# Altium schematic symbol library Shelestov_Misc.SchLib: 113 symbols (part 2 of 2)
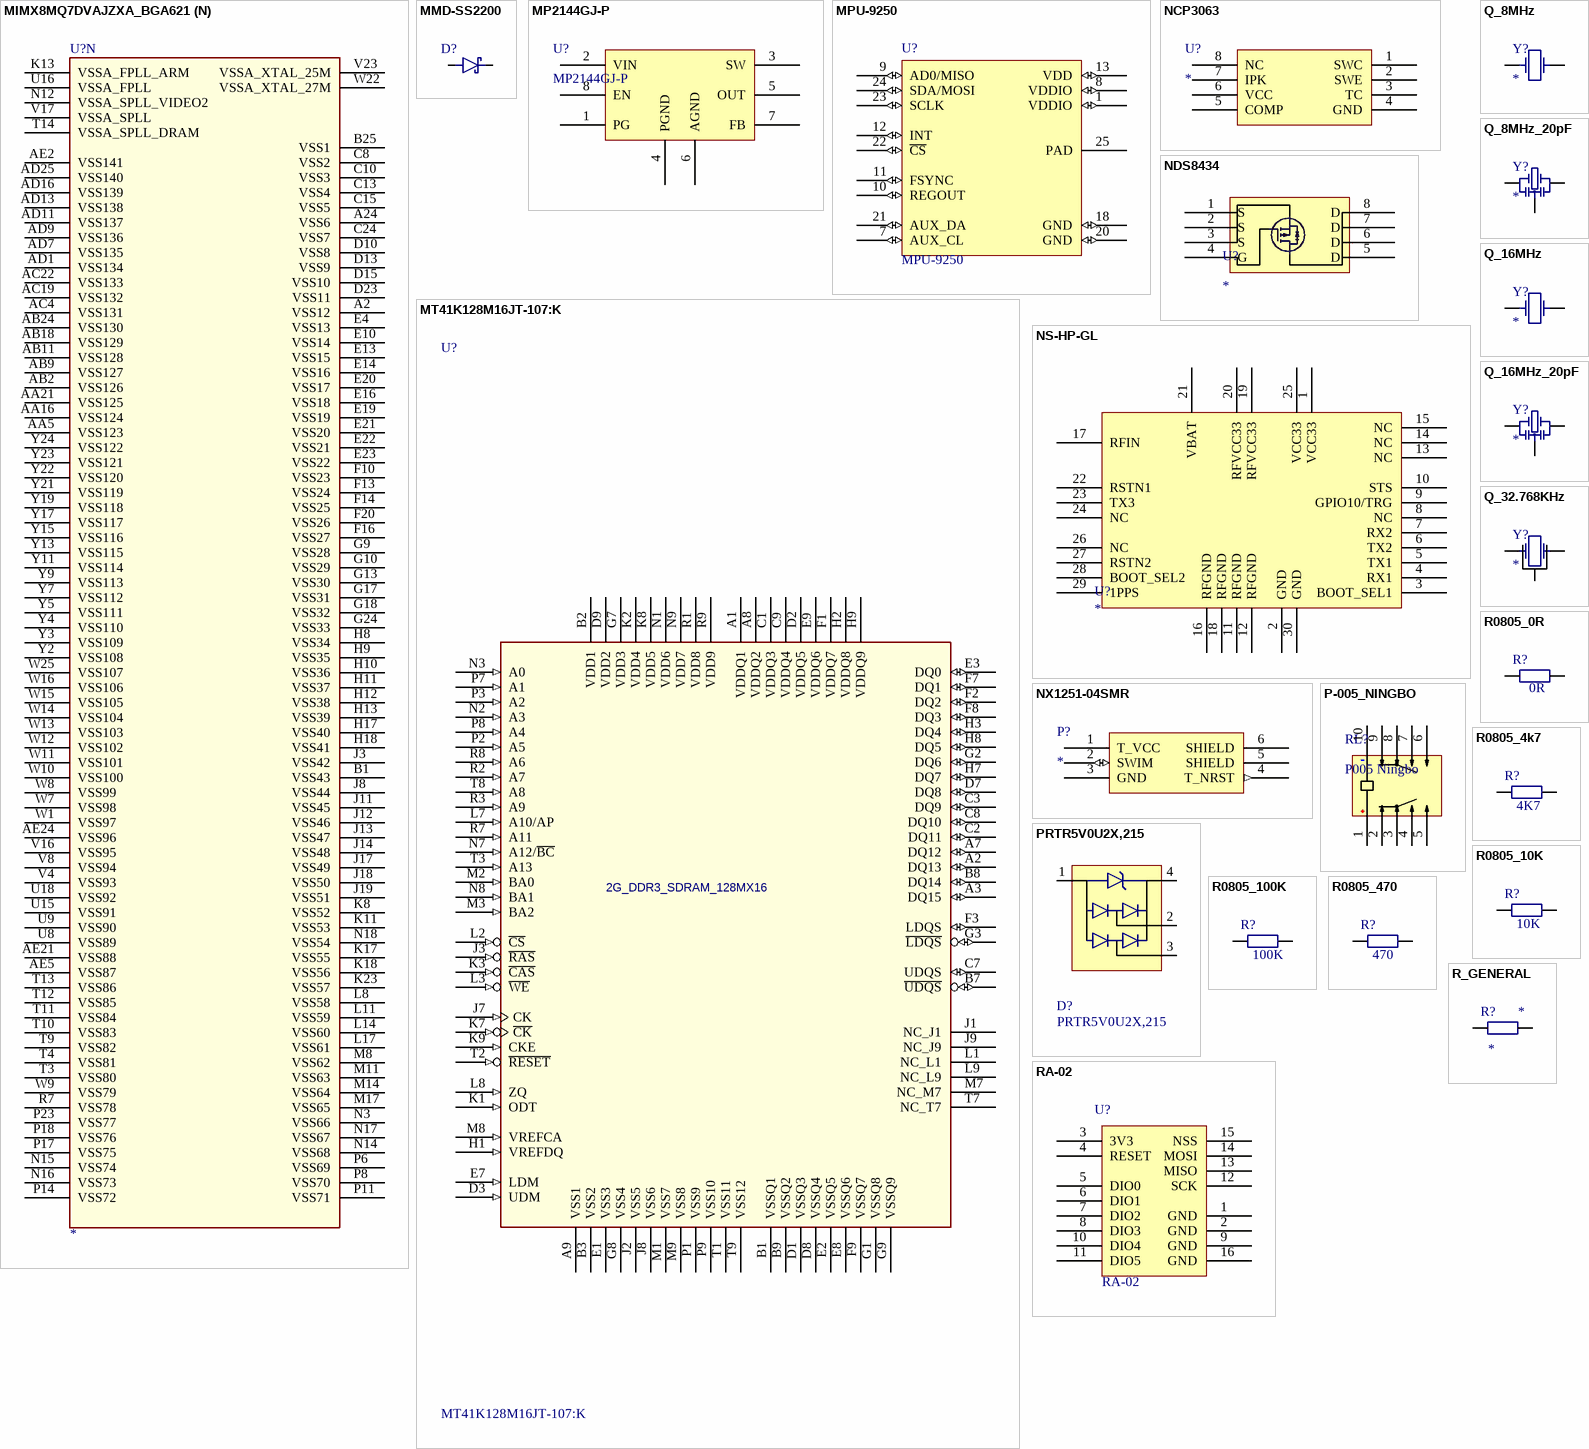
[diagram p12: symbols MIMX8MQ7DVAJZXA_BGA621 to RA-02]

## MIMX8MQ7DVAJZXA_BGA621
designator U?
CLASS: IC; SPLIT_INST: TRUE; SWAP_INFO: (S1+S2+S3+S4+S5+S6+S7+S8+S9+S10+S11+S12+S13)
footprint bga621_heatsink
part A pins: AA1 DRAM_DQ22, AA2 DRAM_DQ20, AA3 DRAM_DQ26, AA4 DRAM_DQ25, AA6 DRAM_DQ27, AA7 DRAM_DQ30, AA8 DRAM_DQ28, AA9 DRAM_DQ31, AA12 -- / PARITY / --, AA13 ZQ / ZQ / ZQ, AA14 VREF / VREF / VREF, AA17 DRAM_DQ15, AA18 DRAM_DQ12, AA19 DRAM_DQ14, AA20 DRAM_DQ11, AA22 DRAM_DQ09, AA23 DRAM_DQ10, AA24 DRAM_DQ04, AA25 DRAM_DQ06, AB1 DRAM_DQ23, AB4 DRAM_DQ24, AB5 DRAM_DQS3_P, AB6 DRAM_DM3, AB7 DRAM_DQ29, AB10 -- / RAS_n(A16) / RAS#, AB12 -- / BA1 / BA1, AB13 RESET_n / RESET_n / RESET#, AB14 MTEST / MTEST / MTEST, AB15 -- / A9 / A9, AB16 -- / A4 / A4, AB19 DRAM_DQ13, AB20 DRAM_DM1, AB21 DRAM_DQS1_P, AB22 DRAM_DQ08, AB25 DRAM_DQ07, AC1 DRAM_DQS2_N, AC2 DRAM_DQS2_P, AC5 DRAM_DQS3_N, AC7 CA2_B / A13 / A13, AC9 CS0_B / -- / --, AC10 -- / WE_n(A14) / WE#, AC11 -- / CS1_n / CS1#, AC12 -- / ODT0 / ODT0, AC13 MTEST1 / MTEST1(ALERT_n) / MTEST1, AC15 -- / A3 / A3, AC16 CKE0_A / CKE0 / CKE0, AC18 CS1_A / C0 / --, AC21 DRAM_DQS1_N, AC24 DRAM_DQS0_P, AC25 DRAM_DQS0_N, AD2 DRAM_DQ17, AD3 DRAM_DM2, AD4 DRAM_DQ19, AD6 CA5_B / A0 / A0, AD8 CS1_B / -- / --, AD10 CKE0_B / CK_t_B / CK_B, AD12 CK_t_B / A2 / A2, AD14 CK_t_A / BG0 / BA2, AD15 -- / CK_c_A / CK#_A, AD17 CA0_A / A12 / A12(BC#), AD19 CA4_A / A6 / A6, AD20 CA2_A / A7 / A7, AD22 DRAM_DQ03, AD23 DRAM_DM0, AD24 DRAM_DQ01, AE3 DRAM_DQ16, AE4 DRAM_DQ18, AE6 CA4_B / A10(AP) / A10(AP), AE7 CA3_B / BA0 / BA0, AE8 CA0_B / C2 / --, AE9 CA1_B / CAS_n(A15) / CAS#, AE10 CKE1_B / CK_c_B / CK#_B, AE11 -- / ODT1 / ODT1, AE12 CK_c_B / A1 / A1, AE13 -- / ACT_n / A15, AE14 CK_c_A / BG1 / A14, AE15 -- / CK_t_A / CK_A, AE16 CA1_A / A11 / A11, AE17 CKE1_A / CKE1 / CKE1, AE18 CS0_A / CS0_n / CS0#, AE19 CA5_A / A5 / A5, AE20 CA3_A / A8 / A8, AE22 DRAM_DQ02, AE23 DRAM_DQ00, Y1 DRAM_DQ21, Y25 DRAM_DQ05
part B pins: A8 USB2_RX_P, A9 USB2_TX_P, A10 USB2_DP, A11 USB1_RESREF, A12 USB1_RX_P, A13 USB1_TX_P, A14 USB1_DP, B8 USB2_RX_N, B9 USB2_TX_N, B10 USB2_DN, B11 USB2_RESREF, B12 USB1_RX_N, B13 USB1_TX_N, B14 USB1_DN, C9 USB2_ID, C14 USB1_ID, D9 USB2_VBUS, D14 USB1_VBUS
part C pins: C25 PCIE2_RESREF, D24 PCIE2_RXN_N, D25 PCIE2_RXN_P, E24 PCIE2_TXN_N, E25 PCIE2_TXN_P, F24 PCIE2_REF_PAD_CLK_N, F25 PCIE2_REF_PAD_CLK_P, G25 PCIE1_RESREF, H24 PCIE1_RXN_N, H25 PCIE1_RXN_P, J24 PCIE1_TXN_N, J25 PCIE1_TXN_P, K24 PCIE1_REF_PAD_CLK_N, K25 PCIE1_REF_PAD_CLK_P
part D pins: A15 MIPI_DSI_D3_N, A16 MIPI_DSI_D1_N, A17 MIPI_DSI_D0_N, A18 MIPI_DSI_D2_N, B15 MIPI_DSI_D3_P, B16 MIPI_DSI_D1_P, B17 MIPI_DSI_D0_P, B18 MIPI_DSI_D2_P, C16 MIPI_DSI_CLK_N, C17 MIPI_DSI_REXT, D16 MIPI_DSI_CLK_P
part E pins: A19 MIPI_CSI2_CLK_N, A20 MIPI_CSI2_D1_N, A21 MIPI_CSI2_D2_N, A22 MIPI_CSI1_CLK_N, A23 MIPI_CSI1_D0_N, B19 MIPI_CSI2_CLK_P, B20 MIPI_CSI2_D1_P, B21 MIPI_CSI2_D2_P, B22 MIPI_CSI1_CLK_P, B23 MIPI_CSI1_D0_P, B24 MIPI_CSI1_D2_N, C19 MIPI_CSI2_D3_N, C20 MIPI_CSI2_D0_N, C21 MIPI_CSI1_D3_N, C22 MIPI_CSI1_D1_N, C23 MIPI_CSI1_D2_P, D19 MIPI_CSI2_D3_P, D20 MIPI_CSI2_D0_P, D21 MIPI_CSI1_D3_P, D22 MIPI_CSI1_D1_P
part F pins: M1 HDMI_TX_P_LN_3, M2 HDMI_TX_M_LN_3, N1 HDMI_TX_M_LN_2, N2 HDMI_TX_P_LN_2, P1 HDMI_REXT, P3 HDMI_DDC_SDA, R1 HDMI_REFCLK_N, R2 HDMI_REFCLK_P, R3 HDMI_DDC_SCL, T1 HDMI_TX_P_LN_0, T2 HDMI_TX_M_LN_0, U1 HDMI_TX_M_LN_1, U2 HDMI_TX_P_LN_1, V1 HDMI_AUX_P, V2 HDMI_AUX_N, W2 HDMI_HPD, W3 HDMI_CEC
part G pins: A3 SAI1_MCLK, B2 SAI1_TXD2, B3 SAI1_TXD6, C1 SAI1_TXD7, C2 SAI1_TXD5, C3 SAI3_TXD, C4 SAI3_TXC, D1 SAI1_TXD3, D2 SAI1_TXD4, D3 SAI3_MCLK, E1 SAI1_TXC, E2 SAI1_TXD1, E6 SPDIF_EXT_CLK, F1 SAI1_RXD5, F2 SAI1_TXD0, F3 SAI3_RXD, F4 SAI3_RXC, F6 SPDIF_TX, G1 SAI1_RXD7, G2 SAI1_RXD6, G3 SAI3_TXFS, G4 SAI3_RXFS, G5 SAI2_TXD0, G6 SPDIF_RX, H1 SAI1_TXFS, H2 SAI1_RXD2, H3 SAI2_RXC, H4 SAI2_TXFS, H5 SAI2_MCLK, H6 SAI2_RXD0, J1 SAI1_RXD4, J2 SAI1_RXD3, J4 SAI2_RXFS, J5 SAI2_TXC, K1 SAI1_RXC, K2 SAI1_RXD0, K4 SAI5_MCLK, K5 SAI5_RXD3, L1 SAI1_RXFS, L2 SAI1_RXD1, L4 SAI5_RXD1, L5 SAI5_RXC, M4 SAI5_RXD2, M5 SAI5_RXD0, N4 SAI5_RXFS
part H pins: F21 NAND_CE2_B, G19 NAND_ALE, G20 NAND_DATA00, G21 NAND_CE1_B, H19 NAND_CE0_B, H20 NAND_CE3_B, H21 NAND_CLE, H22 NAND_DATA02, J20 NAND_DATA01, J21 NAND_DATA03, J22 NAND_DATA05, K19 NAND_RE_B, K20 NAND_READY_B, K21 NAND_WP_B, K22 NAND_WE_B, L19 NAND_DATA06, L20 NAND_DATA04, M19 NAND_DATA07, M20 NAND_DQS
part I pins: L21 SD2_CD_B, L22 SD2_CLK, L24 SD1_CMD, L25 SD1_CLK, M21 SD2_WP, M22 SD2_CMD, M24 SD1_DATA1, M25 SD1_DATA0, N21 SD2_DATA1, N22 SD2_DATA0, N24 SD1_DATA4, N25 SD1_DATA2, P21 SD2_DATA3, P22 SD2_DATA2, P24 SD1_DATA5, P25 SD1_DATA3, R22 SD2_RESET_B, R24 SD1_RESET_B, R25 SD1_DATA6, T24 SD1_STROBE, T25 SD1_DATA7
part J pins: N19 ENET_MDIO, N20 ENET_MDC, P19 ENET_TX_CTL, P20 ENET_TD3, R19 ENET_TD2, R20 ENET_TD0, R21 ENET_TD1, T19 ENET_TXC, T20 ENET_RXC, T21 ENET_RX_CTL, U19 ENET_RD0, U20 ENET_RD2, U21 ENET_RD1, V19 ENET_RD3
part K pins: A4 ECSPI1_MOSI, A5 ECSPI2_SS0, A6 UART3_RXD, A7 UART1_TXD, B4 ECSPI1_MISO, B5 ECSPI2_MISO, B6 UART2_RXD, B7 UART3_TXD, C5 ECSPI2_SCLK, C6 UART4_RXD, C7 UART1_RXD, D4 ECSPI1_SS0, D5 ECSPI1_SCLK, D6 UART2_TXD, D7 UART4_TXD, E5 ECSPI2_MOSI, E7 I2C1_SCL, E8 I2C1_SDA, E9 I2C3_SDA, F7 I2C2_SDA, F8 I2C4_SCL, F9 I2C4_SDA, G7 I2C2_SCL, G8 I2C3_SCL, J6 GPIO1_IO15, K6 GPIO1_IO13, K7 GPIO1_IO14, L6 GPIO1_IO11, L7 GPIO1_IO12, M6 GPIO1_IO09, M7 GPIO1_IO10, N5 GPIO1_IO06, N6 GPIO1_IO07, N7 GPIO1_IO08, P4 GPIO1_IO03, P5 GPIO1_IO04, P7 GPIO1_IO05, R4 GPIO1_IO02, T6 GPIO1_IO00, T7 GPIO1_IO01
part L pins: R23 CLK1_P, T5 JTAG_TCK, T22 CLK2_P, T23 CLK1_N, U5 JTAG_TDO, U6 JTAG_TRST_B, U7 JTAG_MOD, U22 CLK2_N, U24 XTALO_25M, U25 XTALI_25M, V5 JTAG_TMS, V6 BOOT_MODE1, V7 TEST_MODE, V20 PMIC_ON_REQ, V21 PMIC_STBY_REQ, V22 RTC, V24 XTALO_27M, V25 XTALI_27M, W5 JTAG_TDI, W6 BOOT_MODE0, W19 RTC_RESET_B, W20 POR_B, W21 ONOFF
part M pins: AA10 NVCC_DRAM2, AA11 VDDA_DRAM, AA15 NVCC_DRAM4, AB3 NVCC_DRAM6, AB8 NVCC_DRAM5, AB17 NVCC_DRAM3, AB23 NVCC_DRAM1, AC3 NVCC_DRAM10, AC6 NVCC_DRAM13, AC8 NVCC_DRAM12, AC14 NVCC_DRAM7, AC17 NVCC_DRAM8, AC20 NVCC_DRAM9, AC23 NVCC_DRAM11, AD5 NVCC_DRAM16, AD18 NVCC_DRAM15, AD21 NVCC_DRAM14, C11 USB2_VPTX, C12 USB1_VPTX, C18 MIPI_VDDHA1, D8 NVCC_UART, D11 USB2_VP, D12 USB1_VP, D17 MIPI_VDDHA2, D18 MIPI_VDDHA3, E3 NVCC_SAI3, E11 USB2_DVDD, E12 USB1_DVDD, E15 MIPI_VDD1, E17 MIPI_VDDA1, E18 MIPI_VDDA2, F5 NVCC_ECSPI, F11 USB2_VPH, F12 USB1_VPH, F15 MIPI_VDD2, F17 MIPI_VDDA3, F18 MIPI_VDDA4, F19 MIPI_VDDPLL, F22 PCIE_VP2, F23 PCIE_VPTX2, G11 USB2_VDD33, G12 USB1_VDD33, G14 VDD_ARM13, G15 VDD_ARM1, G16 VDD_ARM7, G22 PCIE_VP1, G23 PCIE_VPTX1, H7 NVCC_I2C, H14 VDD_ARM14, H15 VDD_ARM2, H16 VDD_ARM8, H23 PCIE_VPH1, J7 NVCC_SAI2, J9 VDD_GPU1, J10 VDD_GPU5, J15 VDD_ARM3, J16 VDD_ARM9, J23 PCIE_VPH2, K3 NVCC_SAI1_2, K9 VDD_GPU2, K10 VDD_GPU6, K12 VDD_SOC11, K14 VDDA_1P8_FPLL_ARM, K15 VDD_ARM4, K16 VDD_ARM10, L3 NVCC_SAI1_1, L9 VDD_GPU3, L10 VDD_GPU7, L12 VDD_SOC12, L13 VDD_SOC17, L15 VDD_ARM5, L16 VDD_ARM11, L18 NVCC_NAND1, L23 NVCC_SD1_2, M3 NVCC_SAI5, M9 VDD_GPU4, M10 VDD_GPU8, M12 VDD_SOC13, M13 VDD_SOC18, M15 VDD_ARM6, M16 VDD_ARM12, M18 NVCC_NAND2, M23 NVCC_SD1_1, N8 VDD_VPU1, N9 VDD_VPU2, N10 VDD_VPU3, N11 VDDA_1P8_SPLL_VIDEO2, N13 VDD_SOC19, N23 NVCC_SD2, P2 HDMI_AVDDIO, P9 VDD_VPU4, P10 VDD_VPU5, P12 VDD_SOC15, P13 VDD_SOC20, P15 VDD_SOC16, P16 VDD_SOC14, R5 NVCC_GPIO1, R6 NVCC_GPIO2, R8 VDD_SOC1, R9 VDD_SOC2, R10 VDD_SOC3, R11 VDD_SOC4, R12 VDD_SOC5, R13 VDD_SOC6, R14 VDD_SOC7, R15 VDD_SOC8, R16 VDD_SOC9, R17 EFUSE_VQPS, R18 VDD_SNVS, T8 VDD_SOC10, T15 VDDA_1P8_SPLL_DRAM, T16 VDDA_1P8_TSENSOR, T17 VDD_SOC21, T18 NVCC_ENET, U3 HDMI_AVDDCORE2, U4 HDMI_AVDDCORE1, U10 VDD_DRAM11, U11 VDD_DRAM8, U12 VDD_DRAM10, U13 VDD_DRAM12, U14 VDD_DRAM9, U17 VDDA_1P8_FPLL, U23 VDDA_1P8_LVDS, V3 HDMI_AVDDCLK, V9 VDD_DRAM1, V10 VDD_DRAM7, V11 VDD_DRAM6, V12 VDD_DRAM5, V13 VDD_DRAM4, V14 VDD_DRAM3, V15 VDD_DRAM2, V18 VDDA_0P9, W4 NVCC_JTAG, W17 VDDA_1P8_SPLL, W18 NVCC_SNVS, W23 VDDA_1P8_XTAL_27M, W24 VDDA_1P8_XTAL_25M, Y6 VDD_DRAM13, Y8 VDD_DRAM14, Y10 VDD_DRAM18, Y12 NVCC_DRAM18, Y14 NVCC_DRAM17, Y16 VDD_DRAM17, Y18 VDD_DRAM16, Y20 VDD_DRAM15
part N pins: A2 VSS12, A24 VSS6, AA5 VSS123, AA16 VSS124, AA21 VSS125, AB2 VSS126, AB9 VSS127, AB11 VSS128, AB18 VSS129, AB24 VSS130, AC4 VSS131, AC19 VSS132, AC22 VSS133, AD1 VSS134, AD7 VSS135, AD9 VSS136, AD11 VSS137, AD13 VSS138, AD16 VSS139, AD25 VSS140, AE2 VSS141, AE5 VSS87, AE21 VSS88, AE24 VSS96, B1 VSS43, B25 VSS1, C8 VSS2, C10 VSS3, C13 VSS4, C15 VSS5, C24 VSS7, D10 VSS8, D13 VSS9, D15 VSS10, D23 VSS11, E4 VSS13, E10 VSS14, E13 VSS15, E14 VSS16, E16 VSS18, E19 VSS19, E20 VSS17, E21 VSS20, E22 VSS21, E23 VSS22, F10 VSS23, F13 VSS24, F14 VSS25, F16 VSS27, F20 VSS26, G9 VSS28, G10 VSS29, G13 VSS30, G17 VSS31, G18 VSS32, G24 VSS33, H8 VSS34, H9 VSS35, H10 VSS36, H11 VSS37, H12 VSS38, H13 VSS39, H17 VSS40, H18 VSS41, J3 VSS42, J8 VSS44, J11 VSS45, J12 VSS46, J13 VSS47, J14 VSS48, J17 VSS49, J18 VSS50, J19 VSS51, K8 VSS52, K11 VSS53, K13 VSSA_FPLL_ARM, K17 VSS55, K18 VSS56, K23 VSS57, L8 VSS58, L11 VSS59, L14 VSS60, L17 VSS61, M8 VSS62, M11 VSS63, M14 VSS64, M17 VSS65, N3 VSS66, N12 VSSA_SPLL_VIDEO2, N14 VSS68, N15 VSS74, N16 VSS73, N17 VSS67, N18 VSS54, P6 VSS69, P8 VSS70, P11 VSS71, P14 VSS72, P17 VSS75, P18 VSS76, P23 VSS77, R7 VSS78, T3 VSS80, T4 VSS81, T9 VSS82, T10 VSS83, T11 VSS84, T12 VSS85, T13 VSS86, T14 VSSA_SPLL_DRAM, U8 VSS89, U9 VSS90, U15 VSS91, U16 VSSA_FPLL, U18 VSS92, V4 VSS93, V8 VSS94, V16 VSS95, V17 VSSA_SPLL, V23 VSSA_XTAL_25M, W1 VSS97, W7 VSS98, W8 VSS99, W9 VSS79, W10 VSS100, W11 VSS101, W12 VSS102, W13 VSS103, W14 VSS104, W15 VSS105, W16 VSS106, W22 VSSA_XTAL_27M, W25 VSS107, Y2 VSS108, Y3 VSS109, Y4 VSS110, Y5 VSS111, Y7 VSS112, Y9 VSS113, Y11 VSS114, Y13 VSS115, Y15 VSS116, Y17 VSS117, Y19 VSS118, Y21 VSS119, Y22 VSS120, Y23 VSS121, Y24 VSS122
part A text: i.MX8M - DDR; (LPDDR4/DDR4/DDR3)
part B text: i.MX8M - USB; USB_P0_VDD33; USB_P0_VPH; USB_P1_VDD33; USB_P1_VPH
part C text: i.MX8M - PCIe; PCIE0_VPH; PCIE1_VPH
part D text: i.MX8M - DSI; DSI_VDDHA
part E text: i.MX8M - CSI; CSI_P1_VDDHA; CSI_P2_VDDHA
part F text: i.MX8M - HDMI
part G text: i.MX8M - SAI; NVCC_SAI1
part H text: i.MX8M - NAND; NVCC_NAND
part I text: i.MX8M - SD; NVCC_SD1
part J text: i.MX8M - eNET
part L text: i.MX8M - MISC; VDDA

## MMD-SS2200
designator D?
SMD Schottky Barrier Rectifier 200V 2A 950mV @ 2A; MP: SS2200; MF: MDD(Microdiode Electronics); LCSC: C14332; PriceLCSC: 0.044; ComponentLink1Description: URLLCSC; ComponentLink1URL: https://lcsc.com/product-detail/Schottky-Barrier-Diodes-SBD_MDD-Microdiode-Electronics-SS2200_C14332.html
footprint DO-214AC
pins: A POS "Anode", C NEG "Cathode"

## MP2144GJ-P
designator U?
2A, 5.5V, 1.2MHz, 40μA IQ, COT Synchronous Step Down Switcher; Value: MP2144GJ-P
pins: 1 PG (power), 2 VIN (power), 3 SW (power), 4 PGND (power), 5 OUT (power), 6 AGND (power), 7 FB (power), 8 EN (power)

## MPU-9250
designator U?
SMD Gyroscope/Accelerometer/Magnetometer Sensor; 9-AXIS; MF: TDK; MP: MPU-9250; Package: QFN-24 InvenSense; Price: 7.09 USD; Availability: Good; SnapEDA_Link: https://www.snapeda.com/symbols-footprints/MPU-9250/TDK-Lambda%20Americas%20Inc/view-part/?ref=snap; Value: *
footprint QFN-24/3MM
pins: 1 VDDIO (io), 7 AUX_CL (io), 8 VDDIO (io), 9 AD0/MISO (io), 10 REGOUT (io), 11 FSYNC (io), 12 INT (io), 13 VDD (io), 18 GND (io), 20 GND (io), 21 AUX_DA (io), 22 ~{CS} (io), 23 SCLK (io), 24 SDA/MOSI (io), 25 PAD

## MT41K128M16JT-107:K
designator U?
DRAM Chip DDR3L SDRAM 2G-Bit 128Mx16 1.35V 96-Pin FBGA; MF: Micron Technology; Availability: Unavailable; Package: TFBGA-96 Micron; SnapEDA_Link: https://www.snapeda.com/parts/MT41K128M16JT-107%3AK/Micron%20Technology%20Inc./view-part/?ref=snap; Price: None; MP: MT41K128M16JT-107:K; Value: *
footprint BGA80P96C6X16_800X1400X110_MT41K128M16JT-107:K
pins: A1 VDDQ1 (power), A2 DQ13 (io), A3 DQ15 (io), A7 DQ12 (io), A8 VDDQ2 (power), A9 VSS1 (power), B1 VSSQ1 (power), B2 VDD1 (power), B3 VSS2 (power), B7 ~{UDQS} (io), B8 DQ14 (io), B9 VSSQ2 (power), C1 VDDQ3 (power), C2 DQ11 (io), C3 DQ9 (io), C7 UDQS (io), C8 DQ10 (io), C9 VDDQ4 (power), D1 VSSQ3 (power), D2 VDDQ5 (power), D3 UDM (in), D7 DQ8 (io), D8 VSSQ4 (power), D9 VDD2 (power), E1 VSS3 (power), E2 VSSQ5 (power), E3 DQ0 (io), E7 LDM (in), E8 VSSQ6 (power), E9 VDDQ6 (power), F1 VDDQ7 (power), F2 DQ2 (io), F3 LDQS (io), F7 DQ1 (io), F8 DQ3 (io), F9 VSSQ7 (power), G1 VSSQ8 (power), G2 DQ6 (io), G3 ~{LDQS} (io), G7 VDD3 (power), G8 VSS4 (power), G9 VSSQ9 (power), H1 VREFDQ (in), H2 VDDQ8 (power), H3 DQ4 (io), H7 DQ7 (io), H8 DQ5 (io), H9 VDDQ9 (power), J1 NC_J1, J2 VSS5 (power), J3 ~{RAS} (in), J7 CK (in), J8 VSS6 (power), J9 NC_J9, K1 ODT (in), K2 VDD4 (power), K3 ~{CAS} (in), K7 ~{CK} (in), K8 VDD5 (power), K9 CKE (in), L1 NC_L1, L2 ~{CS} (in), L3 ~{WE} (in), L7 A10/AP (in), L8 ZQ (in), L9 NC_L9, M1 VSS7 (power), M2 BA0 (in), M3 BA2 (in), M7 NC_M7, M8 VREFCA (in), M9 VSS8 (power), N1 VDD6 (power), N2 A3 (in), N3 A0 (in), N7 A12/~{BC} (in), N8 BA1 (in), N9 VDD7 (power), P1 VSS9 (power), P2 A5 (in), P3 A2 (in), P7 A1 (in), P8 A4 (in), P9 VSS10 (power), R1 VDD8 (power), R2 A7 (in), R3 A9 (in), R7 A11 (in), R8 A6 (in), R9 VDD9 (power), T1 VSS11 (power), T2 ~{RESET} (in), T3 A13 (in), T7 NC_T7, T8 A8 (in), T9 VSS12 (power)
text: 2G_DDR3_SDRAM_128MX16

## NCP3063
designator U?
1.5 A, Step-Up/Down/Inverting Switching Regulators
pins: 1 SWC (power) "Internal Darlington switch collector", 2 SWE (power) "Internal Darlington switch emitter", 3 TC (power) "Timing Capacitor", 4 GND (power) "Ground pin for all internal circuits", 5 COMP (power) "Inverting input pin of internal comparator", 6 VCC (power) "Voltage Supply", 7 IPK (power) "Peak Current Sense Input to monitor the voltage drop across an external resistor to limit the peak", 8 NC (power)

## NDS8434
designator U?
footprint SO-8-SOIC127P600X175-8N
pins: 1 S, 2 S, 3 S, 4 G, 5 D, 6 D, 7 D, 8 D

## NS-HP-GL
designator U?
NS-HP-GL / S2525F8-GL-RTK in SMD; Owned: 2
footprint SKYTRAQ-MOD-PCB (SkyTraq module S2525-F8-GL/NS-HP-GL[-5/-10])
footprint SKYTRAQ-MOD-BREAD (SkyTraq module S2525-F8-GL/NS-HP-GL[-5/-10])
footprint SKYTRAQ-MOD-COMB (SkyTraq module S2525-F8-GL/NS-HP-GL[-5/-10])
pins: 1 VCC33, 2 GND, 3 BOOT_SEL1, 4 RX1, 5 TX1, 6 TX2, 7 RX2, 8 NC, 9 GPIO10/TRG, 10 STS, 11 RFGND, 12 RFGND, 13 NC, 14 NC, 15 NC, 16 RFGND, 17 RFIN, 18 RFGND, 19 RFVCC33, 20 RFVCC33, 21 VBAT, 22 RSTN1, 23 TX3, 24 NC, 25 VCC33, 26 NC, 27 RSTN2, 28 BOOT_SEL2, 29 1PPS, 30 GND

## NX1251-04SMR
designator P?
Kosmodrom: http://www.kosmodrom.com.ua/el.php?name=NX1251-04SMR; PriceKosmodromUAH: 5.5
footprint NX1251-04SMR
pins: 1 T_VCC (power), 2 SWIM (io), 3 GND, 4 T_NRST (out), 5 SHIELD, 6 SHIELD

## P-005_NINGBO
designator RL?, comment P005 Ningbo
footprint P-5_NINGBO
pins: 1 +, 2, 3, 4, 5, 6, 7, 8, 9, 10

## PRTR5V0U2X,215
designator D?
PRTR5V0U2X - Ultra low capacitance double rail-to-rail ESD protection diode; MF: Nexperia USA; Owned: 10; Package: SOT-143 Nexperia; Price: None; Availability: Unavailable; MP: PRTR5V0U2X,215; SnapEDA_Link: https://www.snapeda.com/parts/PRTR5V0U2X%2C215/Nexperia%20USA%20Inc./view-part/?ref=snap; Value: *; PriceKosmodromUAH: 3,25; Kosmodrom: http://www.kosmodrom.com.ua/el.php?name=PRTR5V0U2X.215
footprint SOT143B
pins: 1 P$1, 2 P$2, 3 P$3, 4 P$4

## Q_8MHz
designator Y?
Quartz resonator 8MHz; PriceKosmodromUAH: 6; Kosmodrom: http://www.kosmodrom.com.ua/el.php?name=KX-K-8.0-MHz
footprint QSMD12.3x4.5x4.2
pins: 1, 2

## Q_8MHz_20pF
designator Y?
Quartz resonator 8MHz with 20pF caps; PriceKosmodromUAH: 6; Kosmodrom: http://www.kosmodrom.com.ua/el.php?name=KX-K-8.0-MHz
footprint QSMD3.2X1.3X0.9
pins: 1, 2, 3

## Q_16MHz
designator Y?
Quartz resonator 16MHz; PriceKosmodromUAH: 6; Kosmodrom: http://www.kosmodrom.com.ua/el.php?name=KX-K-8.0-MHz
footprint QSMD12.3x4.5x4.2
footprint QTH_HC49_LOW
footprint QSMD6x3.5x1
pins: 1, 2

## Q_16MHz_20pF
designator Y?
Quartz resonator 16MHz with 20pF caps; PriceKosmodromUAH: 6; Kosmodrom: http://www.kosmodrom.com.ua/el.php?name=KX-K-8.0-MHz
footprint QSMD3.2X1.3X0.9
pins: 1, 2, 3

## Q_32.768KHz
designator Y?
Quartz resonator 32.768KHz; PriceKosmodromUAH: 5; Kosmodrom: http://www.kosmodrom.com.ua/el.php?name=KX-38T-32.768-kHz-6pF
footprint HC_3.0x8.0
pins: 1, 2, PAD

## R0805_0R
designator R?, comment 0R
Resistor 0805 0R; Value: 0R
footprint R0805
pins: 1, 2

## R0805_4k7
designator R?, comment 4K7
Resistor 0805 4K7; Value: 4K7
footprint R0805
pins: 1, 2

## R0805_10K
designator R?, comment 10K
Resistor 0805 10K; Value: 10K
footprint R0805
pins: 1, 2

## R0805_100K
designator R?, comment 100K
Resistor 0805 100K; Value: 100K
footprint R0805
pins: 1, 2

## R0805_470
designator R?, comment 470
Resistor 0805 470; Value: 470
footprint R0805
pins: 1, 2

## R_GENERAL
designator R?
Resistor General; Precision: *; Size: *; Resistance: *
footprint R0402
footprint R0402_NOSILK
footprint R0603
footprint R0603_NOSILK
footprint R0805
footprint R1206
footprint R2512
pins: 1, 2

## RA-02
designator U?
RA-02 LoRa modem by Ai-Thinker; Owned: 6; PriceUAH: 127,66; PriceAliexpress: 2,65; OtherUA: https://1wire.com.ua/ra-02-lora-sx1278-433mhz.html; Aliexpress: https://www.aliexpress.com/item/32976593804.html; Value: RA-02
footprint RA-02
pins: 1 GND, 2 GND, 3 3V3, 4 RESET, 5 DIO0, 6 DIO1, 7 DIO2, 8 DIO3, 9 GND, 10 DIO4, 11 DIO5, 12 SCK, 13 MISO, 14 MOSI, 15 NSS, 16 GND

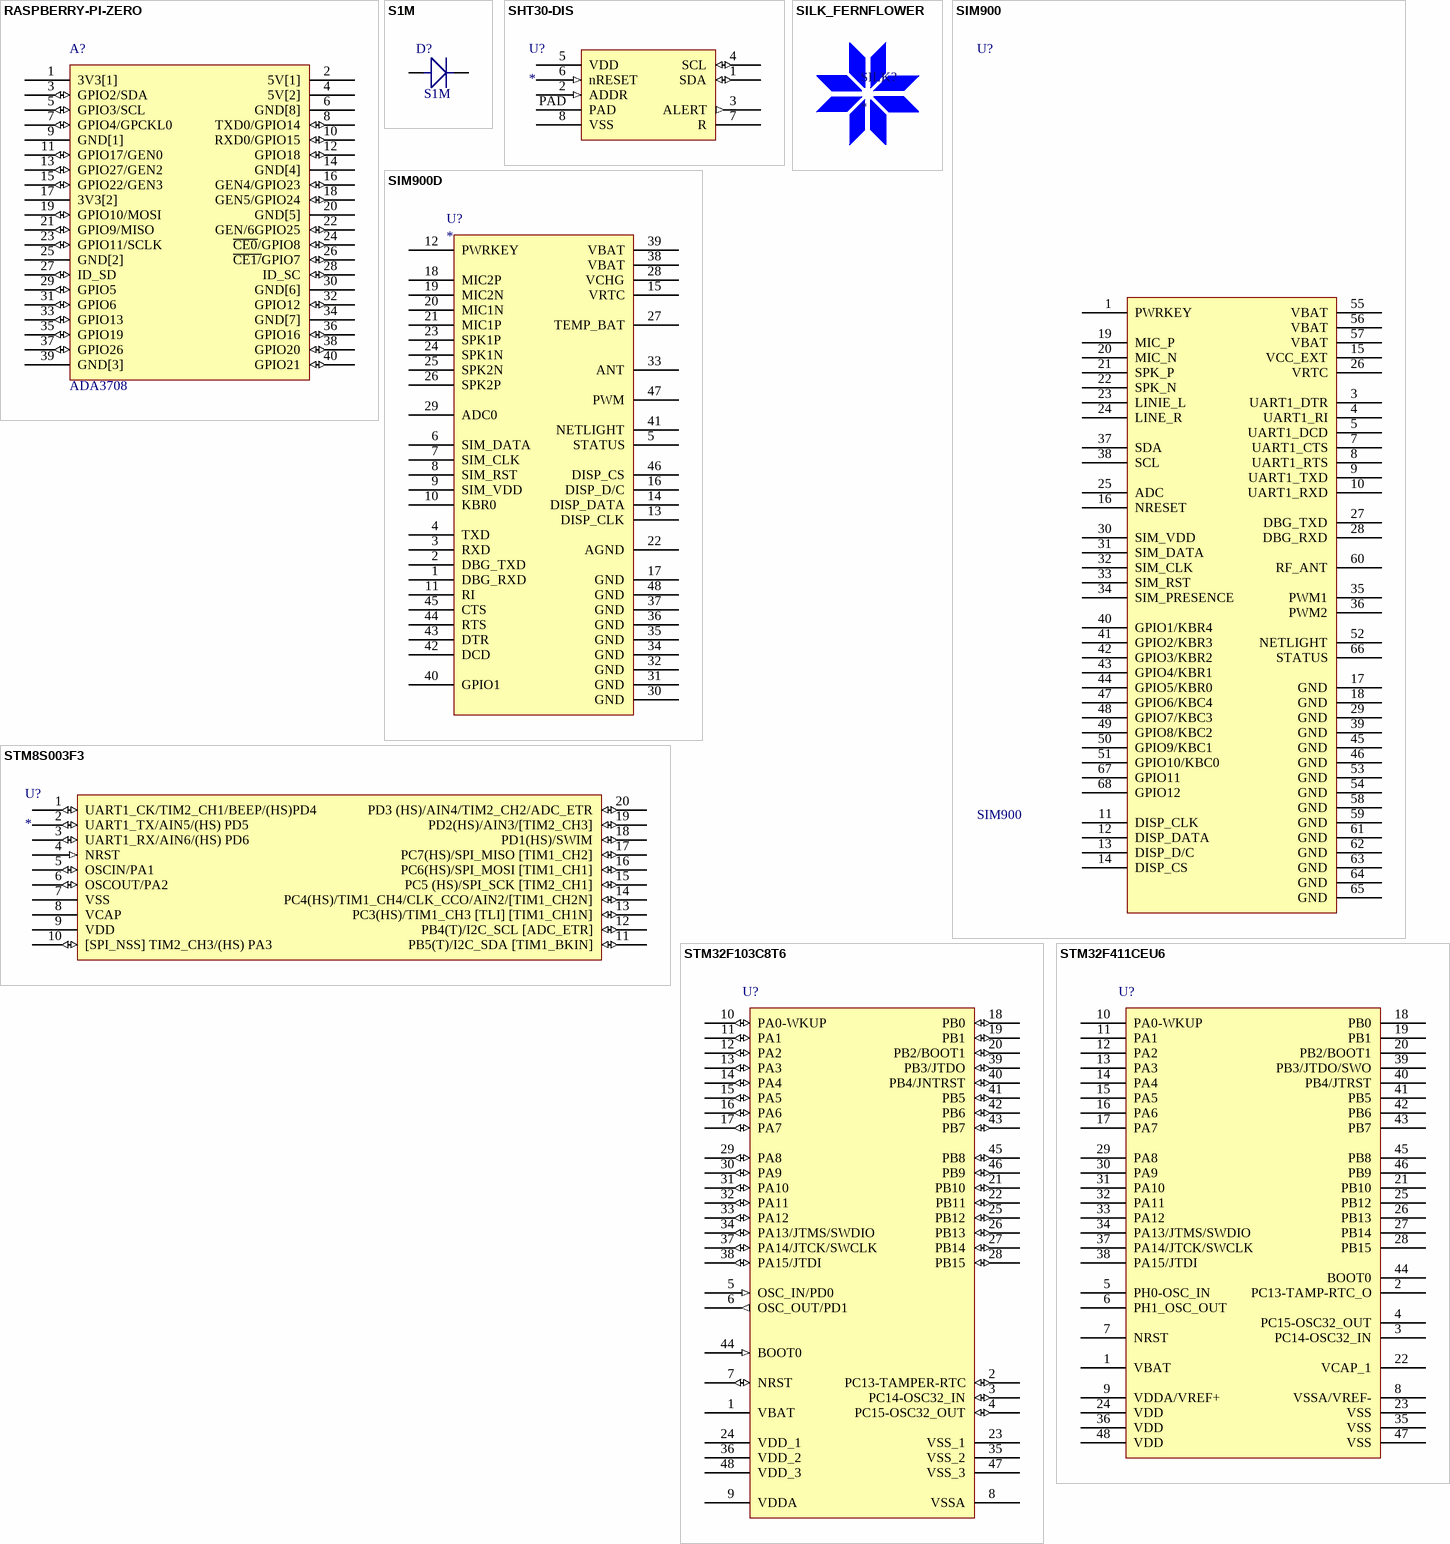
[diagram p10: symbols RASPBERRY-PI-ZERO to STM32F411CEU6]

## RASPBERRY-PI-ZERO
designator A?, comment ADA3708
Raspberry Pi Zero WH _Zero W with Headers_; Availability: Unavailable; Price: None; MP: ADA3708; Package: None; SnapEDA_Link: https://www.snapeda.com/parts/ADA3708/Raspberry%20Pi/view-part/?ref=snap; MF: Raspberry Pi; Value: *
pins: 1 3V3[1] (power), 2 5V[1] (power), 3 GPIO2/SDA (io), 4 5V[2] (power), 5 GPIO3/SCL (io), 6 GND[8] (power), 7 GPIO4/GPCKL0 (io), 8 TXD0/GPIO14 (io), 9 GND[1] (power), 10 RXD0/GPIO15 (io), 11 GPIO17/GEN0 (io), 12 GPIO18 (io), 13 GPIO27/GEN2 (io), 14 GND[4] (power), 15 GPIO22/GEN3 (io), 16 GEN4/GPIO23 (io), 17 3V3[2] (power), 18 GEN5/GPIO24 (io), 19 GPIO10/MOSI (io), 20 GND[5] (power), 21 GPIO9/MISO (io), 22 GEN/6GPIO25 (io), 23 GPIO11/SCLK (io), 24 ~{CE0}/GPIO8 (io), 25 GND[2] (power), 26 ~{CE1/}GPIO7 (io), 27 ID_SD (io), 28 ID_SC (io), 29 GPIO5 (io), 30 GND[6] (power), 31 GPIO6 (io), 32 GPIO12 (io), 33 GPIO13 (io), 34 GND[7] (power), 35 GPIO19 (io), 36 GPIO16 (io), 37 GPIO26 (io), 38 GPIO20 (io), 39 GND[3] (power), 40 GPIO21 (io)

## S1M
designator D?, comment Name: S1M  (hidden comment: General purpuse rectifier diode)
Originally made by Kingtronics; MF: Toshiba; Package: DO-214AC; Price: *; SnapEDA_Link: *; Availability: Good; Value: *; MP: *; PriceRCSUAH: 1; RCS: https://www.rcscomponents.kiev.ua/product/s1m-toshiba_123317.html
footprint DO-214AB
footprint DO-214AC
pins: A POS, C NEG

## SHT30-DIS
designator U?
Temp & Humidity sensor; PriceKosmodromUAH: 75,75; Kosmodrom: http://www.kosmodrom.com.ua/el.php?name=SHT30-DIS-B
footprint SHT3X
pins: 1 SDA (io) "Serial data; input / output", 2 ADDR (in) "Address pin; input; connect to either VDD or VSS, do not leave floating", 3 ALERT (out) "Indicates alarm condition; output; must be left floating if unused", 4 SCL (io) "Serial clock; input / output", 5 VDD (power) "Supply voltage; input", 6 nRESET (in) "Reset pin active low; Input; if not used it is recommended to connect to VDD", 7 R (power) "No electrical function; recommended to connected to VSS", 8 VSS (power) "Ground", PAD (power) "Thermal pad"

## SILK_FERNFLOWER
designator SILK?  (no BOM)
footprint SILK_FERNFLOWER

## SIM900
designator U?
Module: GSM; CSD, GPRS; 2G; 1800MHz, 900MHz; 85.6kbps; I; MF: Simcom; Package: DIP-60 Simcom; Price: None; MP: SIM900; Availability: Unavailable; SnapEDA_Link: https://www.snapeda.com/symbols-footprints/SIM900/Simcom/view-part/?ref=snap; Value: *
footprint SIM-900-QFN100P2400X2400X300-68N
pins: 1 PWRKEY, 3 UART1_DTR, 4 UART1_RI, 5 UART1_DCD, 7 UART1_CTS, 8 UART1_RTS, 9 UART1_TXD, 10 UART1_RXD, 11 DISP_CLK, 12 DISP_DATA, 13 DISP_D/C, 14 DISP_CS, 15 VCC_EXT, 16 NRESET, 17 GND, 18 GND, 19 MIC_P, 20 MIC_N, 21 SPK_P, 22 SPK_N, 23 LINIE_L, 24 LINE_R, 25 ADC, 26 VRTC, 27 DBG_TXD, 28 DBG_RXD, 29 GND, 30 SIM_VDD, 31 SIM_DATA, 32 SIM_CLK, 33 SIM_RST, 34 SIM_PRESENCE, 35 PWM1, 36 PWM2, 37 SDA, 38 SCL, 39 GND, 40 GPIO1/KBR4, 41 GPIO2/KBR3, 42 GPIO3/KBR2, 43 GPIO4/KBR1, 44 GPIO5/KBR0, 45 GND, 46 GND, 47 GPIO6/KBC4, 48 GPIO7/KBC3, 49 GPIO8/KBC2, 50 GPIO9/KBC1, 51 GPIO10/KBC0, 52 NETLIGHT, 53 GND, 54 GND, 55 VBAT, 56 VBAT, 57 VBAT, 58 GND, 59 GND, 60 RF_ANT, 61 GND, 62 GND, 63 GND, 64 GND, 65 GND, 66 STATUS, 67 GPIO11, 68 GPIO12

## SIM900D
designator U?
Module: GSM; CSD, GPRS; 2G; 1800MHz, 900MHz; 85.6kbps; I
pins: 1 DBG_RXD, 2 DBG_TXD, 3 RXD, 4 TXD, 5 STATUS, 6 SIM_DATA, 7 SIM_CLK, 8 SIM_RST, 9 SIM_VDD, 10 KBR0, 11 RI, 12 PWRKEY, 13 DISP_CLK, 14 DISP_DATA, 15 VRTC, 16 DISP_D/C, 17 GND, 18 MIC2P, 19 MIC2N, 20 MIC1N, 21 MIC1P, 22 AGND, 23 SPK1P, 24 SPK1N, 25 SPK2N, 26 SPK2P, 27 TEMP_BAT, 28 VCHG, 29 ADC0, 30 GND, 31 GND, 32 GND, 33 ANT, 34 GND, 35 GND, 36 GND, 37 GND, 38 VBAT, 39 VBAT, 40 GPIO1, 41 NETLIGHT, 42 DCD, 43 DTR, 44 RTS, 45 CTS, 46 DISP_CS, 47 PWM, 48 GND

## STM8S003F3
designator U?
Cheap 8bit MCU
footprint TSSOP20-6.5x4.4-0.65p
footprint UFQFPN20
pins: 1 UART1_CK/TIM2_CH1/BEEP/(HS)PD4 (io), 2 UART1_TX/AIN5/(HS) PD5 (io), 3 UART1_RX/AIN6/(HS) PD6 (io), 4 NRST (in), 5 OSCIN/PA1 (io), 6 OSCOUT/PA2 (io), 7 VSS (power), 8 VCAP (power), 9 VDD (power), 10 [SPI_NSS] TIM2_CH3/(HS) PA3 (io), 11 PB5(T)/I2C_SDA [TIM1_BKIN] (io), 12 PB4(T)/I2C_SCL [ADC_ETR] (io), 13 PC3(HS)/TIM1_CH3 [TLI] [TIM1_CH1N] (io), 14 PC4(HS)/TIM1_CH4/CLK_CCO/AIN2/[TIM1_CH2N] (io), 15 PC5 (HS)/SPI_SCK [TIM2_CH1] (io), 16 PC6(HS)/SPI_MOSI [TIM1_CH1] (io), 17 PC7(HS)/SPI_MISO [TIM1_CH2] (io), 18 PD1(HS)/SWIM (io), 19 PD2(HS)/AIN3/[TIM2_CH3] (io), 20 PD3 (HS)/AIN4/TIM2_CH2/ADC_ETR (io)

## STM32F103C8T6
designator U?
STM32 ARM-based 32-bit MCU with 64 Kbytes Flash, 48-pin LQFP, Industrial Temperature; Published: 30-May-2008; DatasheetVersion: rev6, Mar-2008; PackageVersion: Mar-2008; PackageReference: LQFP48; Publisher: Altium Limited; PackageDescription: 48-Pin Low-Profile Quad Flat Pack, 7 x 7 mm Body, 0.5 mm Pitch (LQFP48); ComponentLink1Description: Manufacturer Link; ComponentLink1URL: www.st.com/stm32; ComponentLink2Description: Datasheet; ComponentLink2URL: http://www.st.com/stonline/products/literature/ds/13587.pdf
footprint LQFP48_N (Thin QFP, 48-Leads, Body 7x7mm, Pitch 0.5mm, IPC Medium Density)
pins: 1 VBAT (power), 2 PC13-TAMPER-RTC (io), 3 PC14-OSC32_IN (io), 4 PC15-OSC32_OUT (io), 5 OSC_IN/PD0 (in), 6 OSC_OUT/PD1 (out), 7 NRST (io), 8 VSSA (power), 9 VDDA (power), 10 PA0-WKUP (io), 11 PA1 (io), 12 PA2 (io), 13 PA3 (io), 14 PA4 (io), 15 PA5 (io), 16 PA6 (io), 17 PA7 (io), 18 PB0 (io), 19 PB1 (io), 20 PB2/BOOT1 (io), 21 PB10 (io), 22 PB11 (io), 23 VSS_1 (power), 24 VDD_1 (power), 25 PB12 (io), 26 PB13 (io), 27 PB14 (io), 28 PB15 (io), 29 PA8 (io), 30 PA9 (io), 31 PA10 (io), 32 PA11 (io), 33 PA12 (io), 34 PA13/JTMS/SWDIO (io), 35 VSS_2 (power), 36 VDD_2 (power), 37 PA14/JTCK/SWCLK (io), 38 PA15/JTDI (io), 39 PB3/JTDO (io), 40 PB4/JNTRST (io), 41 PB5 (io), 42 PB6 (io), 43 PB7 (io), 44 BOOT0 (in), 45 PB8 (io), 46 PB9 (io), 47 VSS_3 (power), 48 VDD_3 (power)

## STM32F411CEU6
designator U?
Cortex-M4 32b MCU+FPU, 125 DMIPS, 512KB Flash,128KB RAM; Published: 30-May-2008; DatasheetVersion: rev6, Mar-2008; PackageVersion: Mar-2008; PackageReference: LQFP48; Publisher: Altium Limited; PackageDescription: 48-Pin Low-Profile Quad Flat Pack, 7 x 7 mm Body, 0.5 mm Pitch (LQFP48); ComponentLink1Description: Manufacturer Link; ComponentLink1URL: www.st.com/stm32; ComponentLink2Description: Datasheet; ComponentLink2URL: http://www.st.com/stonline/products/literature/ds/13587.pdf
footprint QFN50P700X700X60-49N
pins: 1 VBAT (power), 2 PC13-TAMP-RTC_O, 3 PC14-OSC32_IN, 4 PC15-OSC32_OUT, 5 PH0-OSC_IN, 6 PH1_OSC_OUT, 7 NRST, 8 VSSA/VREF- (power), 9 VDDA/VREF+ (power), 10 PA0-WKUP, 11 PA1, 12 PA2, 13 PA3, 14 PA4, 15 PA5, 16 PA6, 17 PA7, 18 PB0, 19 PB1, 20 PB2/BOOT1, 21 PB10, 22 VCAP_1, 23 VSS (power), 24 VDD (power), 25 PB12, 26 PB13, 27 PB14, 28 PB15, 29 PA8, 30 PA9, 31 PA10, 32 PA11, 33 PA12, 34 PA13/JTMS/SWDIO, 35 VSS (power), 36 VDD (power), 37 PA14/JTCK/SWCLK, 38 PA15/JTDI, 39 PB3/JTDO/SWO, 40 PB4/JTRST, 41 PB5, 42 PB6, 43 PB7, 44 BOOT0, 45 PB8, 46 PB9, 47 VSS (power), 48 VDD (power)

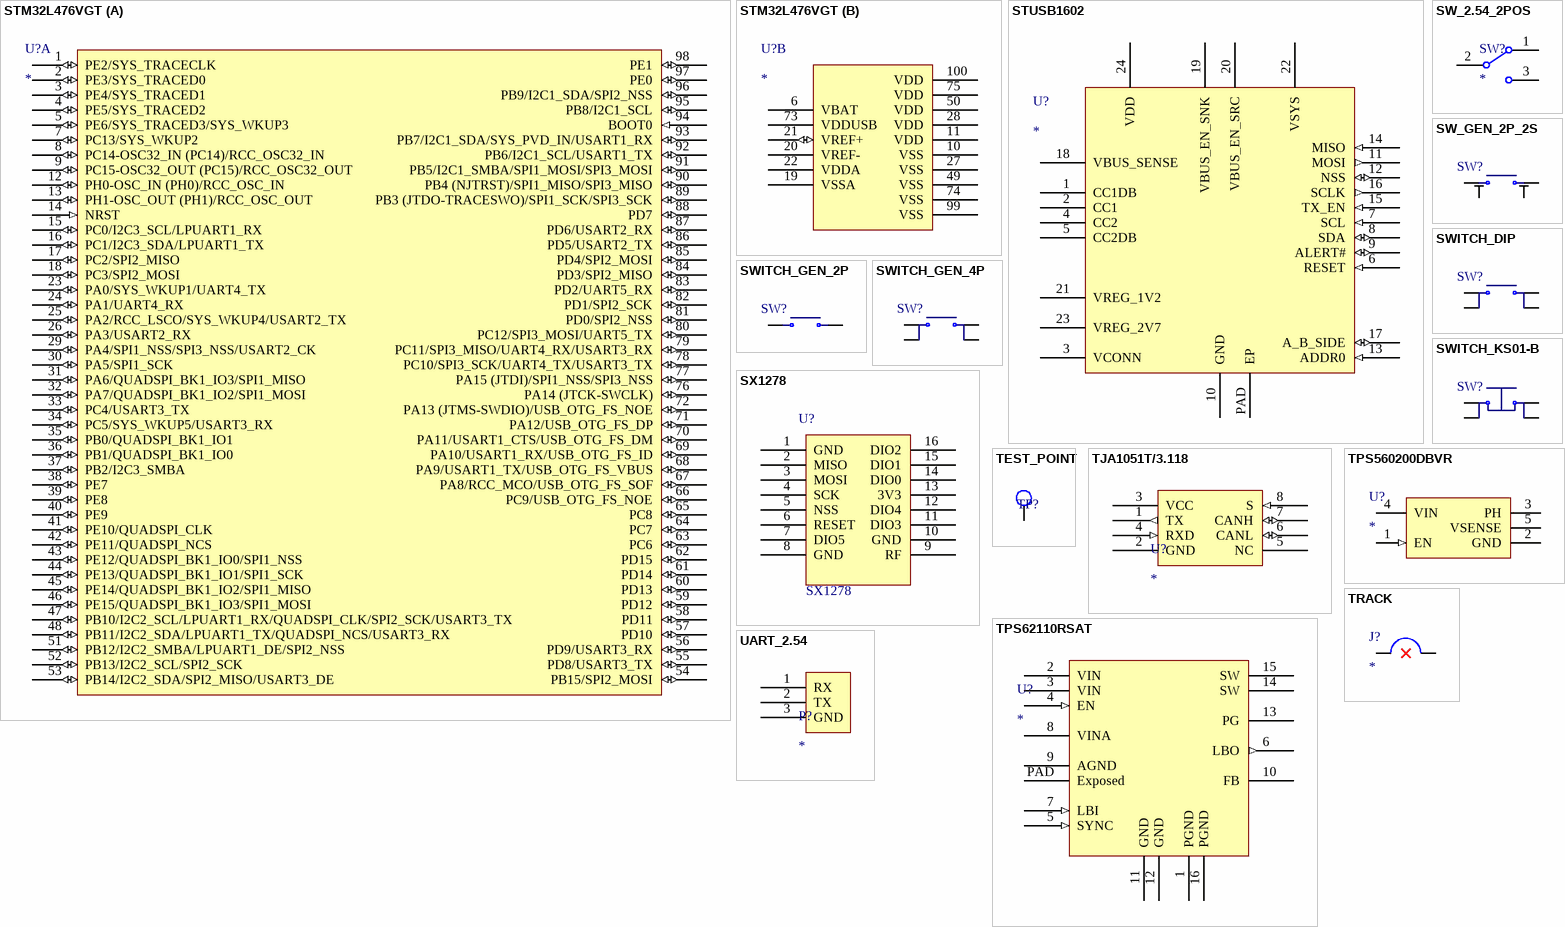
[diagram p11: symbols STM32L476VGT to UART_2.54]

## STM32L476VGT
designator U?
Ultra-low-power Cortex-M4 32-bit MCU+FPU, 100DMIPS, up to 1MB Flash, 128 KB SRAM, USB OTG FS, LCD; Owned: 6; PriceUAH: 253,84; OtherUA: https://step-elektronika.prom.ua/p499466797-mikrokontroller-shirokogo-naznacheniya.html
footprint LQFP100_0.5
part A pins: 1 PE2/SYS_TRACECLK (io), 2 PE3/SYS_TRACED0 (io), 3 PE4/SYS_TRACED1 (io), 4 PE5/SYS_TRACED2 (io), 5 PE6/SYS_TRACED3/SYS_WKUP3 (io), 7 PC13/SYS_WKUP2 (io), 8 PC14-OSC32_IN (PC14)/RCC_OSC32_IN (io), 9 PC15-OSC32_OUT (PC15)/RCC_OSC32_OUT (io), 12 PH0-OSC_IN (PH0)/RCC_OSC_IN (io), 13 PH1-OSC_OUT (PH1)/RCC_OSC_OUT (io), 14 NRST (in), 15 PC0/I2C3_SCL/LPUART1_RX (io), 16 PC1/I2C3_SDA/LPUART1_TX (io), 17 PC2/SPI2_MISO (io), 18 PC3/SPI2_MOSI (io), 23 PA0/SYS_WKUP1/UART4_TX (io), 24 PA1/UART4_RX (io), 25 PA2/RCC_LSCO/SYS_WKUP4/USART2_TX (io), 26 PA3/USART2_RX (io), 29 PA4/SPI1_NSS/SPI3_NSS/USART2_CK (io), 30 PA5/SPI1_SCK (io), 31 PA6/QUADSPI_BK1_IO3/SPI1_MISO (io), 32 PA7/QUADSPI_BK1_IO2/SPI1_MOSI (io), 33 PC4/USART3_TX (io), 34 PC5/SYS_WKUP5/USART3_RX (io), 35 PB0/QUADSPI_BK1_IO1 (io), 36 PB1/QUADSPI_BK1_IO0 (io), 37 PB2/I2C3_SMBA (io), 38 PE7 (io), 39 PE8 (io), 40 PE9 (io), 41 PE10/QUADSPI_CLK (io), 42 PE11/QUADSPI_NCS (io), 43 PE12/QUADSPI_BK1_IO0/SPI1_NSS (io), 44 PE13/QUADSPI_BK1_IO1/SPI1_SCK (io), 45 PE14/QUADSPI_BK1_IO2/SPI1_MISO (io), 46 PE15/QUADSPI_BK1_IO3/SPI1_MOSI (io), 47 PB10/I2C2_SCL/LPUART1_RX/QUADSPI_CLK/SPI2_SCK/USART3_TX (io), 48 PB11/I2C2_SDA/LPUART1_TX/QUADSPI_NCS/USART3_RX (io), 51 PB12/I2C2_SMBA/LPUART1_DE/SPI2_NSS (io), 52 PB13/I2C2_SCL/SPI2_SCK (io), 53 PB14/I2C2_SDA/SPI2_MISO/USART3_DE (io), 54 PB15/SPI2_MOSI (io), 55 PD8/USART3_TX (io), 56 PD9/USART3_RX (io), 57 PD10 (io), 58 PD11 (io), 59 PD12 (io), 60 PD13 (io), 61 PD14 (io), 62 PD15 (io), 63 PC6 (io), 64 PC7 (io), 65 PC8 (io), 66 PC9/USB_OTG_FS_NOE (io), 67 PA8/RCC_MCO/USB_OTG_FS_SOF (io), 68 PA9/USART1_TX/USB_OTG_FS_VBUS (io), 69 PA10/USART1_RX/USB_OTG_FS_ID (io), 70 PA11/USART1_CTS/USB_OTG_FS_DM (io), 71 PA12/USB_OTG_FS_DP (io), 72 PA13 (JTMS-SWDIO)/USB_OTG_FS_NOE (io), 76 PA14 (JTCK-SWCLK) (io), 77 PA15 (JTDI)/SPI1_NSS/SPI3_NSS (io), 78 PC10/SPI3_SCK/UART4_TX/USART3_TX (io), 79 PC11/SPI3_MISO/UART4_RX/USART3_RX (io), 80 PC12/SPI3_MOSI/UART5_TX (io), 81 PD0/SPI2_NSS (io), 82 PD1/SPI2_SCK (io), 83 PD2/UART5_RX (io), 84 PD3/SPI2_MISO (io), 85 PD4/SPI2_MOSI (io), 86 PD5/USART2_TX (io), 87 PD6/USART2_RX (io), 88 PD7 (io), 89 PB3 (JTDO-TRACESWO)/SPI1_SCK/SPI3_SCK (io), 90 PB4 (NJTRST)/SPI1_MISO/SPI3_MISO (io), 91 PB5/I2C1_SMBA/SPI1_MOSI/SPI3_MOSI (io), 92 PB6/I2C1_SCL/USART1_TX (io), 93 PB7/I2C1_SDA/SYS_PVD_IN/USART1_RX (io), 94 BOOT0 (in), 95 PB8/I2C1_SCL (io), 96 PB9/I2C1_SDA/SPI2_NSS (io), 97 PE0 (io), 98 PE1 (io)
part B pins: 6 VBAT (power), 10 VSS (power), 11 VDD (power), 19 VSSA (power), 20 VREF- (power), 21 VREF+ (io), 22 VDDA (power), 27 VSS (power), 28 VDD (power), 49 VSS (power), 50 VDD (power), 73 VDDUSB (power), 74 VSS (power), 75 VDD (power), 99 VSS (power), 100 VDD (power)

## STUSB1602
designator U?
USB Type-C controller with TX/RX line driver and BMC; PriceRCSUAH: 45; RCS: https://www.rcscomponents.kiev.ua/product/stusb1602aqtr_132330.html
footprint QFN24-4x4x0.9
pins: 1 CC1DB (power), 2 CC1 (power), 3 VCONN (power), 4 CC2 (power), 5 CC2DB (power), 6 RESET (in), 7 SCL (in), 8 SDA (io), 9 ALERT# (io), 10 GND (power), 11 MOSI (out), 12 NSS (io), 13 ADDR0 (in), 14 MISO (in), 15 TX_EN (in), 16 SCLK (out), 17 A_B_SIDE (io), 18 VBUS_SENSE (power), 19 VBUS_EN_SNK (power), 20 VBUS_EN_SRC (power), 21 VREG_1V2 (power), 22 VSYS (power), 23 VREG_2V7 (power), 24 VDD (power), PAD EP (power)

## SW_2.54_2POS
designator SW?
Generich 2 pos switch
footprint SW_1x3 2.54
pins: 1, 2, 3

## SW_GEN_2P_2S
designator SW?  (value not drawn)
SWITCH DIP 4.3 mm, 2 shield pins
footprint SW_3x4x2
footprint SW_GENERIC-SIDE
pins: 1, 2, SHIELD 3, SHIELD 4

## SWITCH_DIP
designator SW?  (value not drawn)
SWITCH DIP 4.3 mm
footprint SW_GENERIC
pins: 1, 2, 3, 4

## SWITCH_GEN_2P
designator SW?  (value not drawn)
SWITCH DIP 4.3 mm; PriceKosmodromUAH: 1,25; Kosmodrom: http://www.kosmodrom.com.ua/el.php?name=TACT-35N-F
footprint SW_3x4x2
footprint SW_TACTM-35N-F
pins: 1, 2

## SWITCH_GEN_4P
designator SW?  (value not drawn)
SWITCH DIP 4.3 mm; PriceKosmodromUAH: 0,5; Kosmodrom: http://www.kosmodrom.com.ua/el.php?name=TACT-5X5X1.5
footprint SW_GENERIC
footprint SW_4x4x1.5
footprint SW_3x4x2
pins: 1, 2, 3, 4

## SWITCH_KS01-B
designator SW?  (value not drawn)
Tact button h=12.8m d=9mm / Manucafturer: highly-elec.com; RCSPrice: 15; PriceKosmodromUAH: *; Kosmodrom: *; RCS: https://www.rcscomponents.kiev.ua/product/ks01-bv-grey-mikropereklyuchatel_111101.html
footprint KS01-B
pins: 1, 2, 3, 4

## SX1278
designator U?
SX1278 LoRa modem; Owned: 2; Aliexpress: https://www.aliexpress.com/item/32802402060.html; PriceAliexpress: 3,76; Value: SX1278
footprint SX1278
pins: 1 GND, 2 MISO, 3 MOSI, 4 SCK, 5 NSS, 6 RESET, 7 DIO5, 8 GND, 9 RF, 10 GND, 11 DIO3, 12 DIO4, 13 3V3, 14 DIO0, 15 DIO1, 16 DIO2

## TEST_POINT
designator TP?  (value not drawn)  (no BOM)
footprint TP_1mm
footprint THOOK_0.8-1
footprint HOLE_0.8X1.4
pins: 1

## TJA1051T/3.118
designator U?
footprint SOIC127P600X175-8N
pins: 1 TX (out), 2 GND (power), 3 VCC (power), 4 RXD (in), 5 NC, 6 CANL (io), 7 CANH (io), 8 S (in)

## TPS62110RSAT
designator U?
TPS6211x 17-V, 1.5-A, Synchronous Step-Down Converter; PriceKosmodromUAH: 64; Kosmodrom: http://www.kosmodrom.com.ua/el.php?name=TPS62110RSAT
footprint VQFN-16
pins: 1 PGND (power) "Power ground. Connect all power grounds to this pin.", 2 VIN (power) "InputSupply voltage input (power stage)", 3 VIN (power) "InputSupply voltage input (power stage)", 4 EN (in) "Enable. A logic high enables the converter; logic low forces the device into shutdown mode reducing the supply current to less than 2 μA. Do not leave floating. Feedback pin for the fixed output voltage versions. Connect to VOUT for these devices. For the", 5 SYNC (in) "Input for synchronization to external clock signal. Synchronizes the converter switching frequency to an external clock signal with CMOS level. Also controls power save mode by being tied high or low. SYNC = HIGH: Low-noise mode enabled, fixed-frequency PWM operation is forced; SYNC = LOW (GND): Power save mode enabled, PFM/PWM mode enabled", 6 LBO (out) "Open-drain, low-battery output. This pin is pulled low if LBI is below its threshold. If not used, the pin may be left floating or connected to GND. Power good comparator output. This is an open-drain output. A pullup resistor should be connected", 7 LBI (in) "Low-battery input. Do not leave floating.", 8 VINA (power) "Supply voltage input (support circuits)", 9 AGND (power) "Analog ground, connect to GND and PGND.", 10 FB (power) "adjustable versions, an external resistive divider is connected to this pin. The internal voltage divider is disabled for the adjustable versions.", 11 GND (power) "Ground", 12 GND (power) "Ground", 13 PG (power) "between PG and VOUT. The output goes high when the output voltage is greater than 98.4% of the nominal value. If not used, the pin may be left floating or connected to GND.", 14 SW (power) "Connect the inductor to this pin. This pin is the switch pin and connected to the drain of the internal power MOSFETS.", 15 SW (power) "Same as for 14", 16 PGND (power) "Power ground. Connect all power grounds to this pin.", PAD Exposed (power) "Connect to AGND. Must be soldered to achieve appropriate power dissipation and mechanical Thermal Pad reliability."

## TPS560200DBVR
designator U?
TPS560200 4.5-V to 17-V Input, 500-mA Synchronous Step-Down Converter With Advanced Eco-Mode™; PriceKosmodromUAH: 6,75; Kosmodrom: http://www.kosmodrom.com.ua/el.php?name=TPS560200DBVR
footprint SOT-23-5
pins: 1 EN (in) "Enable pin. Float to enable", 2 GND (power) "Return for control circuitry and low-side power MOSFET", 3 PH (power) "The switch node", 4 VIN (power) "Supplies the control circuitry of the power converter", 5 VSENSE (power) "Converter feedback input. Connect to output voltage with feedback resistor divider"

## TRACK
designator J?  (no BOM)
An exposed track to cut/solder
footprint TRACK-2x0.5MM
pins: 1, 2

## UART_2.54
designator P?
footprint UART_2.54
pins: 1 RX, 2 TX, 3 GND